# Altium schematic symbol library Schlib1.SchLib: 10 symbols
Pins are listed as number, name and electrical type; pins without a type are passive.

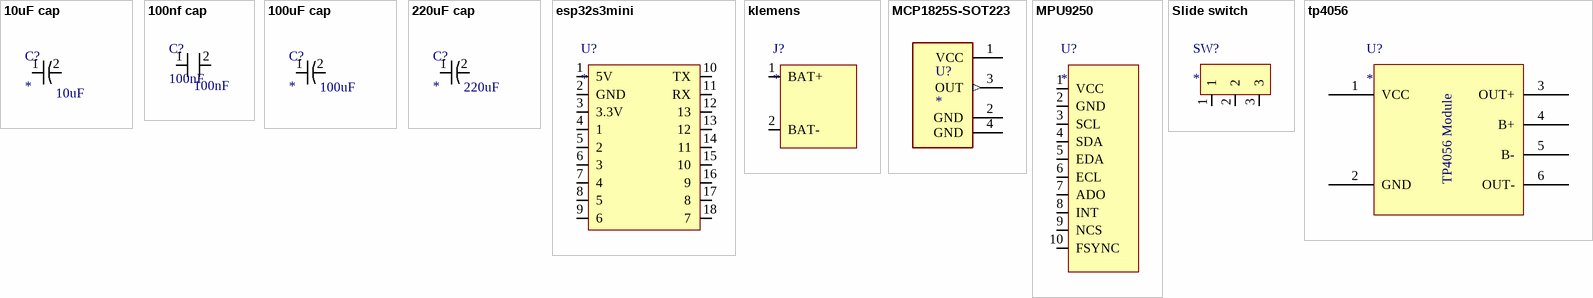
[diagram p0: symbols 10uF cap to tp4056]

## 10uF cap
designator C?  value 10uF
footprint electrytic cap
pins: 1, 2

## 100nf cap
designator C?, comment 100nF
value: 100nF
footprint ceramic cap
pins: 1, 2

## 100uF cap
designator C?  value 100uF
footprint electrytic cap
pins: 1, 2

## 220uF cap
designator C?  value 220uF
footprint electrytic cap
pins: 1, 2

## esp32s3mini
designator U?
footprint ESP32_S3_MINI
pins: 1 5V, 2 GND, 3 3.3V, 4 1, 5 2, 6 3, 7 4, 8 5, 9 6, 10 TX, 11 RX, 12 13, 13 12, 14 11, 15 10, 16 9, 17 8, 18 7

## klemens
designator J?
footprint PCB_Klemens
pins: 1 BAT+, 2 BAT-

## MCP1825S-SOT223
designator U?
MF: Smartec; MP: SMT172-SOT223; SnapEDA_Link: https://www.snapeda.com/parts/SMT172-SOT223/Smartec/view-part/?ref=snap; Package: Package; Value: *; Check_prices: https://www.snapeda.com/parts/SMT172-SOT223/Smartec/view-part/?ref=eda
footprint SOT-223 - regulator
pins: 1 VCC (power), 2 GND (power), 3 OUT (out), 4 GND (power)

## MPU9250
designator U?
footprint mpu9250
pins: 1 VCC, 2 GND, 3 SCL, 4 SDA, 5 EDA, 6 ECL, 7 ADO, 8 INT, 9 NCS, 10 FSYNC

## Slide switch
designator SW?
footprint slide switch
pins: 1, 2, 3

## tp4056
designator U?
footprint tp4056
pins: 1 VCC, 2 GND, 3 OUT+, 4 B+, 5 B-, 6 OUT-
text: TP4056 Module